# Altium footprint library Length Bar Comparator.PcbLib: 35 footprints (part 1 of 3)
Each footprint in its own frame and in the unit in brackets; x right, y up, seen from the top. Pads: shape width x height; smd on the part's side, far side on the other; paste and mask are expansions set on the pad; w line width, h text height; cw(c..) or ccw(c..) is an arc to the next point about the centre after c.
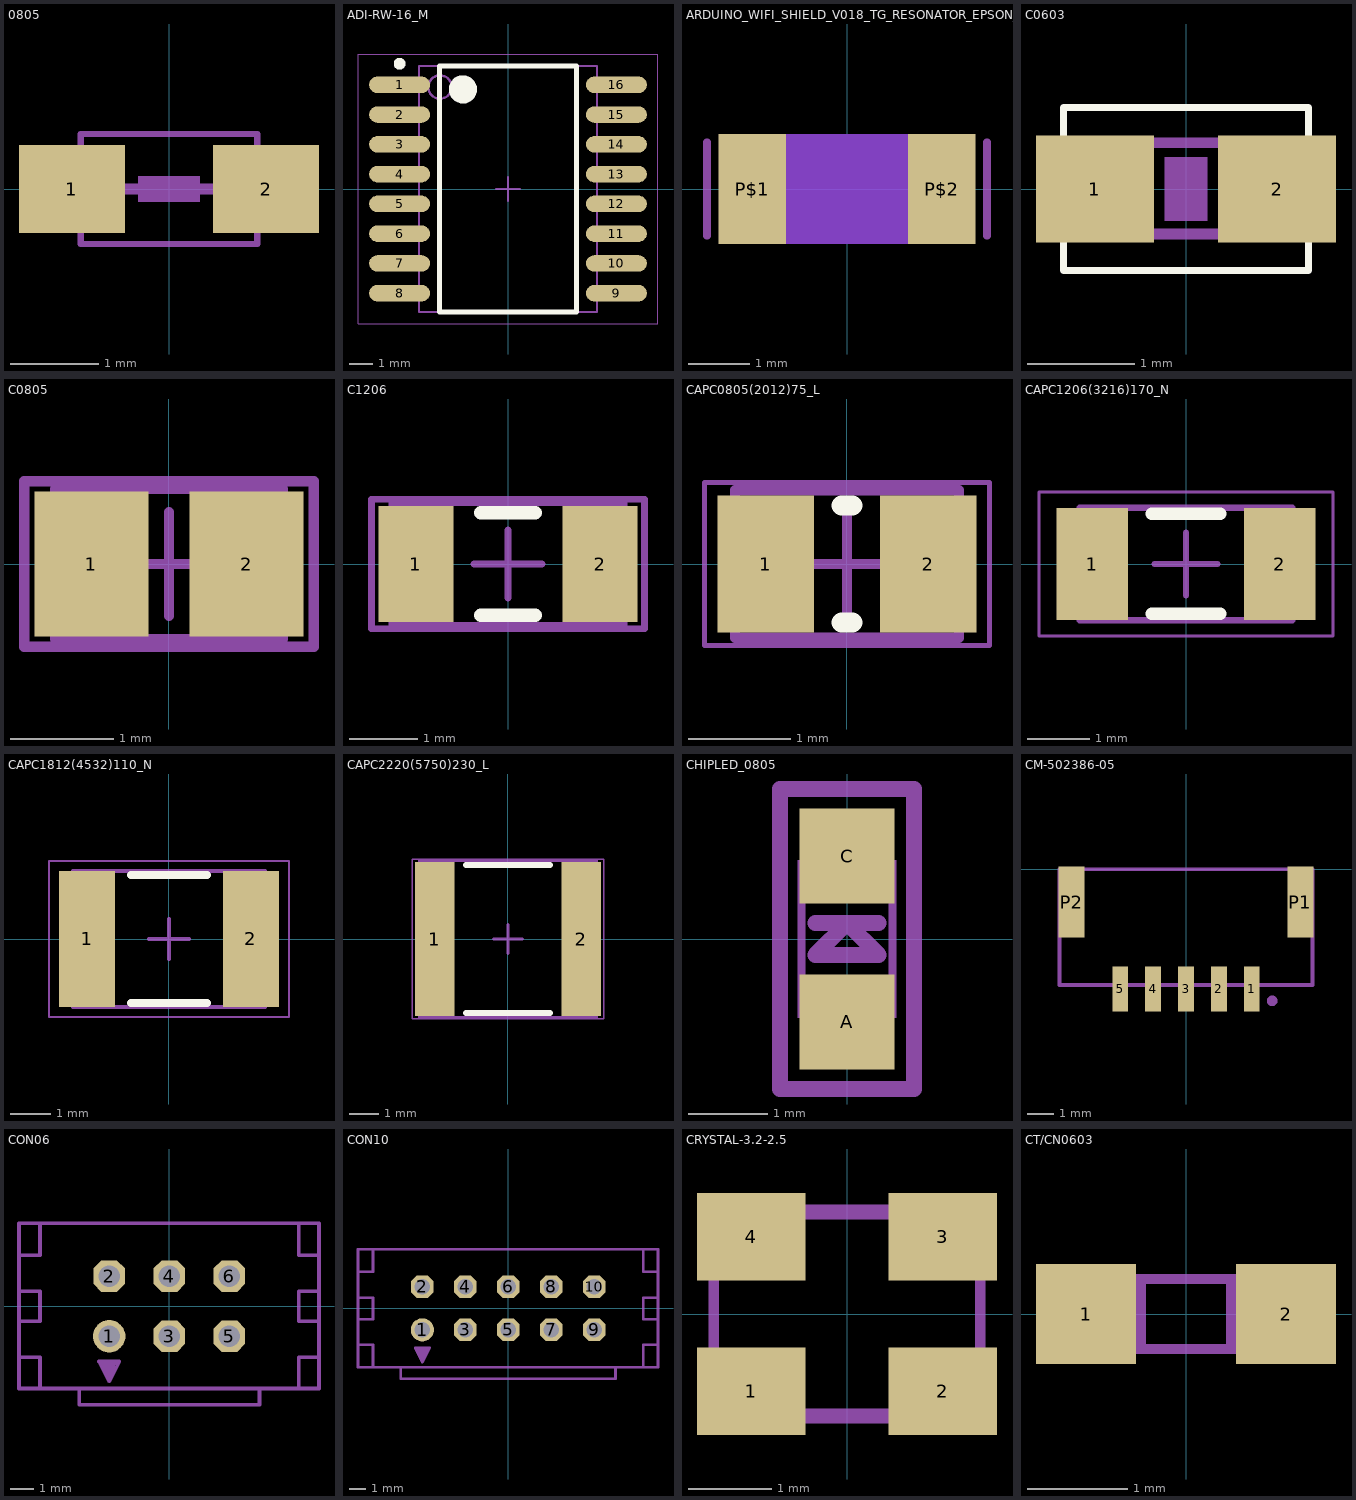
[diagram p0: the footprints below, top view; thin cyan lines are the x and y axes]

## 0805 [mm] "0805"
pads (2):
  rect 1.2x1 smd: 1(-1.1,0) 2(1.1,0)
Mechanical 2:
  rectangle: -0.35,-0.15 0.35,0.15
  lines w0.07: -1,-0.625 1,-0.625 ; -1,0.625 1,0.625
  lines w0.127: -1.3,0 1.2,0
Mechanical 16:
  lines w0.07: -1,-0.625 -1,0.625 ; 1,-0.625 1,0.625
  lines w0.127: -1.1,0 1.1,0

## ADI-RW-16_M [mm] "SOIC, 16-Leads, Body 10.3x7.5mm, Pitch 1.27mm, IPC Low Density"
height 2.65
pads (16):
  oval 2.6x0.7 smd: 1(-4.625,4.445) 2(-4.625,3.175) 3(-4.625,1.905) 4(-4.625,0.635) 5(-4.625,-0.635) 6(-4.625,-1.905) 7(-4.625,-3.175) 8(-4.625,-4.445) 9(4.625,-4.445) 10(4.625,-3.175) 11(4.625,-1.905) 12(4.625,-0.635) 13(4.625,0.635) 14(4.625,1.905) 15(4.625,3.175) 16(4.625,4.445)
Top Overlay:
  circle w0.6: c-1.925,4.25 r0.3
  circle w0.25: c-4.625,5.345 r0.125
  lines w0.2: -2.925,-5.25 2.925,-5.25 2.925,5.25 -2.925,5.25 -2.925,-5.25
Mechanical 13:
  circle w0.1: c-2.9,4.35 r0.5
  lines w0.1: -3.8,-5.25 3.8,-5.25 3.8,5.25 -3.8,5.25 -3.8,-5.25
Mechanical 15:
  lines w0.05: -6.4,-5.75 6.4,-5.75 6.4,5.75 -6.4,5.75 -6.4,-5.75
  lines w0.1: -0.5,0 0.5,0 ; 0,-0.5 0,0.5
3D body: height 2.65, standoff 0.1, extent -3.8,-5.25 3.8,5.25

## ARDUINO_WIFI_SHIELD_V018_TG_RESONATOR_EPSON_FC_145 [mm] "ARDUINO_WIFI_SHIELD_V018_TG_RESONATOR_EPSON_FC_145"
pads (2):
  rect 1.1x1.8 smd: P$1(-1.55,0) P$2(1.55,0)
Bottom Layer keep-out:
  rectangle: -1,-0.9 1,0.9
Mechanical 3:
  lines w0.127: -2.286,-0.762 -2.286,0.762 ; 2.286,-0.762 2.286,0.762

## C0603 [mm] "C0603"
pads (2):
  rect 1.1x1 smd: 1(-0.85,0) 2(0.85,0)
Top Overlay:
  lines w0.064: -1.143,-0.762 1.143,-0.762 1.143,0.762 -1.143,0.762 -1.143,-0.762
Mechanical 8:
  rectangle: -0.2,-0.3 0.2,0.3
Mechanical 16:
  rectangle: -0.838,-0.47 -0.338,0.48
  rectangle: 0.33,-0.47 0.83,0.48
  lines w0.102: -0.356,-0.419 0.356,-0.419 ; -0.356,0.432 0.356,0.432

## C0805 [mm] "Chip Capacitor, Body 2.0x1.3mm, IPC High Density"
height 1.4
pads (2):
  rect 1.1x1.4 smd: 1(-0.75,0) 2(0.75,0)
Mechanical 13:
  lines w0.1: -1.1,-0.725 1.1,-0.725 1.1,0.725 -1.1,0.725 -1.1,-0.725
Mechanical 15:
  lines w0.1: -0.5,0 0.5,0 ; 0,-0.5 0,0.5 ; -1.4,-0.8 1.4,-0.8 1.4,0.8 -1.4,0.8 -1.4,-0.8
3D body: height 1.4, standoff 0, extent -1.1,-0.725 1.1,0.725

## C1206 [mm] "Chip Capacitor, Body 3.2x1.6mm, IPC High Density"
height 1.3
pads (2):
  rect 1.1x1.7 smd: 1(-1.35,0) 2(1.35,0)
Top Overlay:
  lines w0.2: -0.4,-0.75 0.4,-0.75 ; -0.4,0.75 0.4,0.75
Mechanical 13:
  lines w0.1: -1.7,-0.9 1.7,-0.9 1.7,0.9 -1.7,0.9 -1.7,-0.9
Mechanical 15:
  lines w0.1: -0.5,0 0.5,0 ; 0,-0.5 0,0.5 ; -2,-0.95 2,-0.95 2,0.95 -2,0.95 -2,-0.95
3D body: height 1.3, standoff 0, extent -1.7,-0.9 1.7,0.9

## CAPC0805(2012)75_L [mm] "Chip Capacitor, Body 2.0x1.2mm, Height 0.75mm, IPC High Density"
height 0.75
pads (2):
  rect 0.95x1.35 smd: 1(-0.8,0) 2(0.8,0)
Top Overlay:
  lines w0.2: -0.05,-0.575 0.05,-0.575 ; -0.05,0.575 0.05,0.575
Mechanical 13:
  lines w0.1: -1.1,-0.725 -1.1,0.725 1.1,0.725 1.1,-0.725 -1.1,-0.725
Mechanical 15:
  lines w0.05: -1.4,-0.8 -1.4,0.8 1.4,0.8 1.4,-0.8 -1.4,-0.8
  lines w0.1: -0.5,0 0.5,0 ; 0,-0.5 0,0.5
3D body: height 0.75, standoff 0, extent -0.6,-0.725 0.6,0.725
3D body: height 0.75, standoff 0, extent -1.1,-0.725 -0.6,0.725
3D body: height 0.75, standoff 0, extent 0.6,-0.725 1.1,0.725

## CAPC1206(3216)170_N [mm] "Chip Capacitor, Body 3.2x1.6mm, Height 1.7mm, IPC Medium Density"
height 1.7
pads (2):
  rect 1.15x1.8 smd: 1(-1.5,0) 2(1.5,0)
Top Overlay:
  lines w0.2: -0.55,-0.8 0.55,-0.8 ; -0.55,0.8 0.55,0.8
Mechanical 13:
  lines w0.1: -1.7,-0.9 -1.7,0.9 1.7,0.9 1.7,-0.9 -1.7,-0.9
Mechanical 15:
  lines w0.05: -2.35,-1.15 -2.35,1.15 2.35,1.15 2.35,-1.15 -2.35,-1.15
  lines w0.1: -0.5,0 0.5,0 ; 0,-0.5 0,0.5
3D body: height 1.7, standoff 0, extent -1.2,-0.9 1.2,0.9
3D body: height 1.7, standoff 0, extent -1.7,-0.9 -1.2,0.9
3D body: height 1.7, standoff 0, extent 1.2,-0.9 1.7,0.9

## CAPC1812(4532)110_N [mm] "Chip Capacitor, Body 4.5x3.2mm, Height 1.1mm, IPC Medium Density"
height 1.1
pads (2):
  rect 1.4x3.4 smd: 1(-2.05,0) 2(2.05,0)
Top Overlay:
  lines w0.2: -0.95,-1.6 0.95,-1.6 ; -0.95,1.6 0.95,1.6
Mechanical 13:
  lines w0.1: -2.4,-1.7 -2.4,1.7 2.4,1.7 2.4,-1.7 -2.4,-1.7
Mechanical 15:
  lines w0.05: -3,-1.95 -3,1.95 3,1.95 3,-1.95 -3,-1.95
  lines w0.1: -0.5,0 0.5,0 ; 0,-0.5 0,0.5
3D body: height 1.1, standoff 0, extent -1.8,-1.7 1.8,1.7
3D body: height 1.1, standoff 0, extent -2.4,-1.7 -1.8,1.7
3D body: height 1.1, standoff 0, extent 1.8,-1.7 2.4,1.7

## CAPC2220(5750)230_L [mm] "Chip Capacitor, Body 5.7x5.0mm, Height 2.3mm, IPC High Density"
height 2.3
pads (2):
  rect 1.35x5.3 smd: 1(-2.525,0) 2(2.525,0)
Top Overlay:
  lines w0.2: -1.45,-2.55 1.45,-2.55 ; -1.45,2.55 1.45,2.55
Mechanical 13:
  lines w0.1: -3.05,-2.7 -3.05,2.7 3.05,2.7 3.05,-2.7 -3.05,-2.7
Mechanical 15:
  lines w0.05: -3.3,-2.75 -3.3,2.75 3.3,2.75 3.3,-2.75 -3.3,-2.75
  lines w0.1: -0.5,0 0.5,0 ; 0,-0.5 0,0.5
3D body: height 2.3, standoff 0, extent -2.45,-2.7 2.45,2.7
3D body: height 2.3, standoff 0, extent -3.05,-2.7 -2.45,2.7
3D body: height 2.3, standoff 0, extent 2.45,-2.7 3.05,2.7

## CHIPLED_0805 [mm] "CHIPLED_0805"
pads (2):
  rect 1.2x1.2 smd: A(0,-1.05) C(0,1.05)
Mechanical 2:
  lines w0.203: -0.4,0.2 0,0.2 ; 0.4,0.2 0,0.2 ; 0,0.2 -0.4,-0.2 0.4,-0.2 0,0.2 ; -0.85,-1.9 0.85,-1.9 0.85,1.9 -0.85,1.9 -0.85,-1.9
Mechanical 16:
  circle w0.076: c-0.45,0.85 r0.103
  rectangle: 0.3,0.5 0.625,1
  rectangle: -0.325,0.5 -0.175,0.75
  rectangle: 0.175,0.5 0.325,0.75
  rectangle: -0.2,0.5 0.2,0.675
  rectangle: 0.3,-1 0.625,-0.5
  rectangle: -0.625,-1 -0.3,-0.5
  rectangle: 0.175,-0.75 0.325,-0.5
  rectangle: -0.325,-0.75 -0.175,-0.5
  rectangle: -0.2,-0.675 0.2,-0.5
  rectangle: -0.6,0.5 -0.3,0.762
  rectangle: -0.625,0.925 -0.3,1
  lines w0.102: -0.575,-0.5 -0.575,0.925 ; -0.35,-0.925 cw(c0,-0.979) 0.35,-0.925 ; -0.35,0.925 ccw(c0,0.979) 0.35,0.925 ; 0.575,-0.525 0.575,0.525
Mechanical 18:
  text "A" at 0.136,-1.148 h0.39
  text "C" at 0.123,1.452 h0.39

## CM-502386-05 [mm] "CM-502386-05"
pads (7):
  rect 0.6x1.7 smd: 1(2.5,-4.55) 2(1.25,-4.55) 3(0,-4.55) 4(-1.25,-4.55) 5(-2.5,-4.55)
  rect 1x2.7 smd: P1(4.35,-1.25) P2(-4.35,-1.25)
Mechanical 2:
  circle w0.2: c3.275,-5 r0.1
  lines w0.15: -4.8,-2.9 -4.8,-4.4 -3.075,-4.4 ; -3.575,0 3.575,0 ; -1.975,-4.4 -1.775,-4.4 ; -0.725,-4.4 -0.525,-4.4 ; 0.525,-4.4 0.725,-4.4 ; 1.775,-4.4 1.975,-4.4 ; 3.075,-4.4 4.8,-4.4 4.8,-2.9
Mechanical 16:
  circle w0.2: c3.275,-5 r0.1
  lines w0.15: -4.8,-4.4 4.8,-4.4 4.8,0 -4.8,0 -4.8,-4.4

## CON06 [mil] "CON06"
pads (6):
  round 54 hole 36: 1(-100,-50)
  oct 52.29x52.29 hole 36: 2(-100,50) 3(0,-50) 4(0,50) 5(100,-50) 6(100,50)
Mechanical 2:
  rectangle: -110,-109 -90,-99
  rectangle: -115,-99 -100,-94
  rectangle: -100,-99 -85,-94
  rectangle: -105,-117 -95,-107
  lines w6: -100,-115 -100,-125 ; -250,-85 -215,-85 -215,-137 ; -250,-85 -250,-25 ; -250,-85 -250,-137 -215,-137 ; -250,-25 -215,-25 -215,25 -250,25 ; -250,-25 -250,25 ; -250,25 -250,85 ; -250,85 -250,138 -215,138 ; -250,85 -215,85 -215,138 ; -215,-137 -150,-137 ; -215,138 -150,138 150,138 215,138 ; -150,-137 -150,-164 150,-164 150,-137 ; -150,-137 150,-137 ; -100,-125 -83,-92 -117,-92 -100,-125 ; 150,-137 215,-137 ; 215,-137 215,-85 249,-85 ; 215,-137 249,-137 249,-85 ; 215,138 249,138 249,85 ; 215,138 215,85 249,85 ; 249,-85 249,-25 ; 249,-25 215,-25 215,25 249,25 ; 249,-25 249,25 ; 249,25 249,85
  text "1" at -195,-75 h93

## CON10 [mil] "CON10"
pads (10):
  round 54 hole 36: 1(-200,-50)
  oct 52.29x52.29 hole 36: 2(-200,50) 3(-100,-50) 4(-100,50) 5(0,-50) 6(0,50) 7(100,-50) 8(100,50) 9(200,-50) 10(200,50)
Mechanical 2:
  rectangle: -210,-109 -190,-99
  rectangle: -215,-99 -200,-94
  rectangle: -200,-99 -185,-94
  rectangle: -205,-117 -195,-107
  lines w6: -200,-115 -200,-125 ; -350,-85 -315,-85 -315,-137 ; -350,-85 -350,-25 ; -350,-85 -350,-137 -315,-137 ; -350,-25 -315,-25 -315,25 -350,25 ; -350,-25 -350,25 ; -350,25 -350,85 ; -350,85 -350,138 -315,138 ; -350,85 -315,85 -315,138 ; -315,-137 -250,-137 ; -315,138 315,138 ; -250,-137 -250,-164 250,-164 250,-137 ; -250,-137 250,-137 ; -200,-125 -183,-92 -217,-92 -200,-125 ; 250,-137 315,-137 ; 315,-137 315,-85 349,-85 ; 315,-137 349,-137 349,-85 ; 315,138 349,138 349,85 ; 315,138 315,85 349,85 ; 349,-85 349,-25 ; 349,-25 315,-25 315,25 349,25 ; 349,-25 349,25 ; 349,25 349,85
  text "1" at -295,-75 h93

## CRYSTAL-3.2-2.5 [mm] "CRYSTAL-3.2-2.5"
pads (4):
  rect 1.3x1.05 smd: 1(-1.15,-0.925) 2(1.15,-0.925) 3(1.15,0.925) 4(-1.15,0.925)
Mechanical 2:
  lines w0.127: -1.6,-1.25 1.6,-1.25 1.6,1.25 -1.6,1.25 -1.6,-1.25
Mechanical 16:
  lines w0.127: -1.6,-1.2 1.6,-1.2 1.6,1.2 -1.6,1.2 -1.6,-1.2

## CT/CN0603 [mm] "CT/CN0603"
pads (2):
  rect 1x1 smd: 1(-1,0) 2(1,0)
Mechanical 16:
  rectangle: -0.75,-0.35 -0.4,0.35
  region: 0.75,0.35 0.4,0.35 0.4,-0.35 0.75,-0.35
  lines w0.102: -0.75,-0.35 0.75,-0.35 0.75,0.35 -0.75,0.35 -0.75,-0.35